# Altium footprint library heed.PcbLib: 20 footprints (part 1 of 2)
Each footprint in its own frame and in the unit in brackets; x right, y up, seen from the top. Pads: shape width x height; smd on the part's side, far side on the other; paste and mask are expansions set on the pad; w line width, h text height; cw(c..) or ccw(c..) is an arc to the next point about the centre after c.
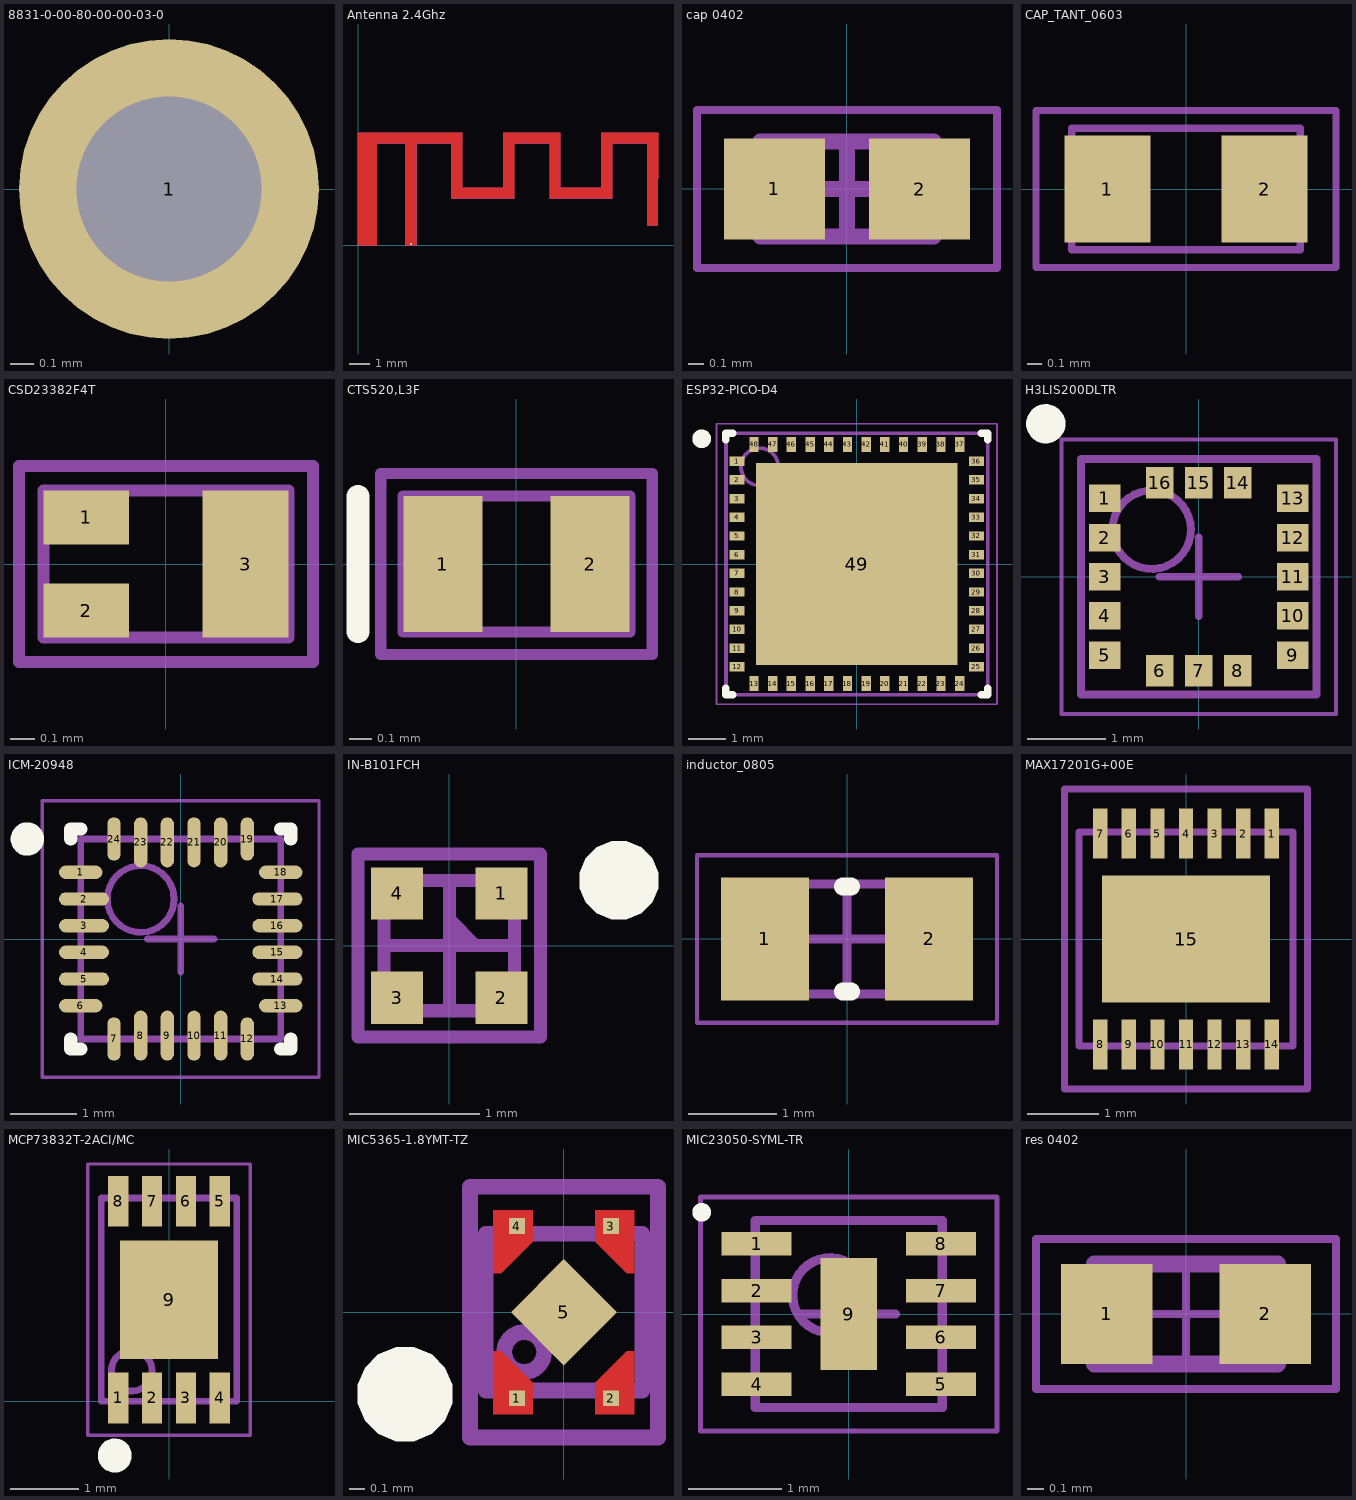
[diagram p0: the footprints below, top view; thin cyan lines are the x and y axes]

## 8831-0-00-80-00-00-03-0 [mm]
pads (1):
  round 1.3 hole 0.8: 1(0,0)

## Antenna 2.4Ghz [mm]
pads (1):
  rect 0.1x0.1 smd paste+0: 1(2.55,0.05)
Top Layer:
  region: 0,0 0,5.39 5,5.39 5,2.75 7,2.75 7,5.39 9.7,5.39 9.7,2.75 11.7,2.75 11.7,5.39 14.4,5.39 14.4,0.95 13.9,0.95 13.9,4.89 12.2,4.89 12.2,2.25 9.2,2.25 9.2,4.89 7.5,4.89 7.5,2.25 4.5,2.25 4.5,4.89 2.8,4.89 2.8,0 2.3,0 2.3,4.89 0.9,4.89 0.9,0
Mechanical 1:
  lines w0.025: 0,5.39 0.4,5.39 0,5.39 ; 0,5.39 5,5.39 5,2.75 7,2.75 7,5.39 9.7,5.39 9.7,2.75 11.7,2.75 11.7,5.39 14.4,5.39 14.4,0.95 13.9,0.95 13.9,4.89 12.2,4.89 12.2,2.25 9.2,2.25 9.2,4.89 7.5,4.89 7.5,2.25 4.5,2.25 4.5,4.89 2.8,4.89 2.8,0 2.3,0 2.3,4.89 0.9,4.89 0.9,0 0,0 0,5.39
Mechanical 13:
  lines w0.025: 0,0.5 0.9,0.5

## cap 0402 [mm] "Chip Capacitor, 2-Leads, Body 1.00x0.50mm, IPC Medium Density"
height 0.6
pads (2):
  rect 0.64x0.64 smd: 1(-0.46,0) 2(0.46,0)
Mechanical 13:
  lines w0.1: -0.55,-0.3 -0.55,0.3 0.55,0.3 0.55,-0.3 -0.55,-0.3
Mechanical 15:
  lines w0.05: -0.95,-0.5 -0.95,0.5 0.95,0.5 0.95,-0.5 -0.95,-0.5
  lines w0.1: -0.3,0 0.3,0 ; 0,-0.3 0,0.3
3D body "cap 0402.step": height 0.6, standoff 0, extent -0.55,-0.3 0.55,0.3

## CAP_TANT_0603 [mm] "cap_0603"
height 0.85
pads (2):
  rect 0.6x0.75 smd: 1(-0.55,0) 2(0.55,0)
Mechanical 13:
  lines w0.05: -0.8,-0.425 0.8,-0.425 0.8,0.425 -0.8,0.425 -0.8,-0.425
Mechanical 15:
  lines w0.05: -1.05,-0.55 -1.05,0.55 1.05,0.55 1.05,-0.55 -1.05,-0.55
3D body: height 0.8, standoff 0, extent -0.8,-0.425 0.8,0.425

## CSD23382F4T [mm]
pads (3):
  rect 0.35x0.22 smd: 1(-0.325,0.19) 2(-0.325,-0.19)
  rect 0.35x0.6 smd: 3(0.325,0)
Mechanical 13:
  lines w0.05: -0.5,-0.3 0.5,-0.3 0.5,0.3 -0.5,0.3 -0.5,-0.3
Mechanical 15:
  lines w0.05: -0.6,-0.4 -0.6,0.4 0.6,0.4 0.6,-0.4 -0.6,-0.4
3D body: height 0.35, standoff 0, extent -0.5,-0.3 0.5,0.3

## CTS520,L3F [mm]
pads (2):
  rect 0.35x0.6 smd: 1(-0.325,0) 2(0.325,0)
Top Overlay:
  lines w0.1: -0.7,-0.3 -0.7,0.3
Mechanical 13:
  region: -0.5,0.3 -0.3,0.3 -0.3,-0.3 -0.5,-0.3
  lines w0.05: -0.5,-0.3 -0.5,0.3 0.5,0.3 0.5,-0.3 -0.5,-0.3
Mechanical 15:
  lines w0.05: -0.6,-0.4 0.6,-0.4 0.6,0.4 -0.6,0.4 -0.6,-0.4
3D body: height 0.4, standoff 0, extent -0.5,-0.3 0.5,0.3

## ESP32-PICO-D4 [mm] "PQFN, 48-Leads, Body 7,00x7,00mm, Pitch 0,50mm, Thermal Pad 5,40x5,40mm, IPC Medium Density"
height 1
pads (49):
  rect 0.4x0.25 smd: 1(-3.2,2.75) 2(-3.2,2.25) 3(-3.2,1.75) 4(-3.2,1.25) 5(-3.2,0.75) 6(-3.2,0.25) 7(-3.2,-0.25) 8(-3.2,-0.75) 9(-3.2,-1.25) 10(-3.2,-1.75) 11(-3.2,-2.25) 12(-3.2,-2.75) 25(3.2,-2.75) 26(3.2,-2.25) 27(3.2,-1.75) 28(3.2,-1.25) 29(3.2,-0.75) 30(3.2,-0.25) 31(3.2,0.25) 32(3.2,0.75) 33(3.2,1.25) 34(3.2,1.75) 35(3.2,2.25) 36(3.2,2.75)
  rect 0.25x0.4 smd: 13(-2.75,-3.2) 14(-2.25,-3.2) 15(-1.75,-3.2) 16(-1.25,-3.2) 17(-0.75,-3.2) 18(-0.25,-3.2) 19(0.25,-3.2) 20(0.75,-3.2) 21(1.25,-3.2) 22(1.75,-3.2) 23(2.25,-3.2) 24(2.75,-3.2) 37(2.75,3.2) 38(2.25,3.2) 39(1.75,3.2) 40(1.25,3.2) 41(0.75,3.2) 42(0.25,3.2) 43(-0.25,3.2) 44(-0.75,3.2) 45(-1.25,3.2) 46(-1.75,3.2) 47(-2.25,3.2) 48(-2.75,3.2)
  rect 5.4x5.4 smd paste-10: 49(0,0)
Top Overlay:
  circle w0.25: c-4.15,3.35 r0.125
  lines w0.2: -3.5,-3.325 -3.5,-3.5 -3.325,-3.5 ; -3.5,3.325 -3.5,3.5 -3.325,3.5 ; 3.325,-3.5 3.5,-3.5 3.5,-3.325 ; 3.325,3.5 3.5,3.5 3.5,3.325
Top Paste:
  region: -2.4,-1 -2.4,-2.4 -1,-2.4 -1,-1
  region: -0.7,-1 -0.7,-2.4 0.7,-2.4 0.7,-1
  region: 1,-1 1,-2.4 2.4,-2.4 2.4,-1
  region: 1,0.7 1,-0.7 2.4,-0.7 2.4,0.7
  region: -2.4,0.7 -2.4,-0.7 -1,-0.7 -1,0.7
  region: -0.7,0.7 -0.7,-0.7 0.7,-0.7 0.7,0.7
  region: -0.7,2.4 -0.7,1 0.7,1 0.7,2.4
  region: 1,2.4 1,1 2.4,1 2.4,2.4
  region: -2.4,2.4 -2.4,1 -1,1 -1,2.4
Mechanical 13:
  circle w0.1: c-2.6,2.6 r0.5
  lines w0.1: -3.5,-3.5 -3.5,3.5 3.5,3.5 3.5,-3.5 -3.5,-3.5
Mechanical 15:
  lines w0.05: -3.75,-3.75 -3.75,3.75 3.75,3.75 3.75,-3.75 -3.75,-3.75
  lines w0.1: -0.5,0 0.5,0 ; 0,-0.5 0,0.5
3D body "ESP32 PICO D4.step": height 1, standoff 0, extent -3.5,-3.5 3.5,3.5

## H3LIS200DLTR [mm] "PQFN, 16-Leads, Body 3.00x3.00mm, Pitch 0.50mm, IPC Medium Density"
height 1
pads (16):
  rect 0.4x0.35 smd: 1(-1.2,1) 2(-1.2,0.5) 3(-1.2,0) 4(-1.2,-0.5) 5(-1.2,-1) 9(1.2,-1) 10(1.2,-0.5) 11(1.2,0) 12(1.2,0.5) 13(1.2,1)
  rect 0.35x0.4 smd: 6(-0.5,-1.2) 7(0,-1.2) 8(0.5,-1.2) 14(0.5,1.2) 15(0,1.2) 16(-0.5,1.2)
Top Overlay:
  circle w0.25: c-1.95,1.95 r0.125
Mechanical 13:
  circle w0.1: c-0.6,0.6 r0.5
  lines w0.1: -1.5,-1.5 -1.5,1.5 1.5,1.5 1.5,-1.5 -1.5,-1.5
Mechanical 15:
  lines w0.05: -1.75,-1.75 -1.75,1.75 1.75,1.75 1.75,-1.75 -1.75,-1.75
  lines w0.1: -0.5,0 0.5,0 ; 0,-0.5 0,0.5
3D body "H3LIS200DLTR.step": height 1, standoff 0, extent -1.5,-1.5 1.5,1.5

## ICM-20948 [mm] "QFN, 24-Leads, Body 3,00x3,00mm, Pitch 0,40mm, Thermal Pad 1,54x1,70mm, IPC Medium Density"
height 1
pads (24):
  oval 0.65x0.2 smd: 1(-1.5,1) 6(-1.5,-1) 13(1.5,-1) 18(1.5,1)
  oval 0.75x0.2 smd: 2(-1.45,0.6) 3(-1.45,0.2) 4(-1.45,-0.2) 5(-1.45,-0.6) 14(1.45,-0.6) 15(1.45,-0.2) 16(1.45,0.2) 17(1.45,0.6)
  oval 0.2x0.65 smd: 7(-1,-1.5) 12(1,-1.5) 19(1,1.5) 24(-1,1.5)
  oval 0.2x0.75 smd: 8(-0.6,-1.45) 9(-0.2,-1.45) 10(0.2,-1.45) 11(0.6,-1.45) 20(0.6,1.45) 21(0.2,1.45) 22(-0.2,1.45) 23(-0.6,1.45)
Top Overlay:
  circle w0.25: c-2.3,1.5 r0.125
  lines w0.2: -1.65,-1.5 -1.65,-1.65 -1.5,-1.65 ; -1.65,1.5 -1.65,1.65 -1.5,1.65 ; 1.5,-1.65 1.65,-1.65 1.65,-1.5 ; 1.5,1.65 1.65,1.65 1.65,1.5
Mechanical 13:
  circle w0.1: c-0.6,0.6 r0.5
  lines w0.1: -1.5,-1.5 1.5,-1.5 1.5,1.5 -1.5,1.5 -1.5,-1.5
Mechanical 15:
  lines w0.05: -2.075,-2.075 2.075,-2.075 2.075,2.075 -2.075,2.075 -2.075,-2.075
  lines w0.1: -0.5,0 0.5,0 ; 0,-0.5 0,0.5
3D body "ICM-20948.step": height 1, standoff 0, extent -1.501,-1.501 1.501,1.501

## IN-B101FCH [mm]
pads (4):
  rect 0.4x0.4 smd: 1(0.4,0.4) 2(0.4,-0.4) 3(-0.4,-0.4) 4(-0.4,0.4)
Top Overlay:
  region: 1.3,0.8 1.36,0.8 1.47,0.754 1.554,0.67 1.6,0.56 1.6,0.5 1.6,0.44 1.554,0.33 1.47,0.246 1.36,0.2 1.3,0.2 1.24,0.2 1.13,0.246 1.046,0.33 1,0.44 1,0.5 1,0.56 1.046,0.67 1.13,0.754 1.24,0.8
Mechanical 13:
  lines w0.1: -0.5,0 0.5,0 ; 0,-0.5 0,0.5 ; 0,0.1 0.1,0 ; 0,0.2 0.2,0 ; -0.5,-0.5 0.5,-0.5 0.5,0.5 -0.5,0.5 -0.5,-0.5
Mechanical 15:
  lines w0.1: -0.7,-0.7 0.7,-0.7 0.7,0.7 -0.7,0.7 -0.7,-0.7
3D body: height 0.65, standoff 0, extent -0.5,-0.5 0.5,0.5

## inductor_0805 [mm] "Chip Inductor, 2-Leads, Body 2.00x1.25mm, IPC Medium Density"
height 0.9
pads (2):
  rect 1x1.39 smd: 1(-0.93,0) 2(0.93,0)
Top Overlay:
  lines w0.2: -0.05,-0.595 0.05,-0.595 ; -0.05,0.595 0.05,0.595
Mechanical 13:
  lines w0.1: -1,-0.625 1,-0.625 1,0.625 -1,0.625 -1,-0.625
Mechanical 15:
  lines w0.05: -1.7,-0.95 1.7,-0.95 1.7,0.95 -1.7,0.95 -1.7,-0.95
  lines w0.1: -0.5,0 0.5,0 ; 0,-0.5 0,0.5
3D body "inductor_0805.step": height 0.9, standoff 0, extent -1,-0.625 1,0.625

## MAX17201G+00E [mm]
pads (15):
  rect 0.2x0.7 smd: 1(1.2,1.475) 2(0.8,1.475) 3(0.4,1.475) 4(0,1.475) 5(-0.4,1.475) 6(-0.8,1.475) 7(-1.2,1.475) 8(-1.2,-1.475) 9(-0.8,-1.475) 10(-0.4,-1.475) 11(0,-1.475) 12(0.4,-1.475) 13(0.8,-1.475) 14(1.2,-1.475)
  rect 2.35x1.78 smd paste-10: 15(0,0)
Top Paste:
  rectangle: -1.016,-0.762 -0.127,-0.127
  rectangle: -1.016,0.127 -0.127,0.762
  rectangle: 0.127,0.127 1.016,0.762
  rectangle: 0.127,-0.762 1.016,-0.127
Mechanical 13:
  lines w0.1: -1.5,-1.5 -1.5,1.5 1.5,1.5 1.5,-1.5 -1.5,-1.5
Mechanical 15:
  lines w0.1: -1.7,-2.1 1.7,-2.1 1.7,2.1 -1.7,2.1 -1.7,-2.1
3D body: height 0.8, standoff 0, extent -1.5,-1.5 1.5,1.5

## MCP73832T-2ACI/MC [mm] "IC CONTROLLER LI-ION 4.2V 8DFN"
pads (9):
  rect 0.3x0.75 smd mask+0.05: 1(-0.75,0.05) 2(-0.25,0.05) 3(0.25,0.05) 4(0.75,0.05) 5(0.75,2.95) 6(0.25,2.95) 7(-0.25,2.95) 8(-0.75,2.95)
  rect 1.45x1.75 smd paste-0.15 mask+0.05: 9(0,1.5)
Top Overlay:
  circle w0.25: c-0.8,-0.8 r0.125
Mechanical 13:
  circle w0.1: c-0.55,0.45 r0.3
  lines w0.1: -1,0 1,0 ; -1,0 -1,3 ; -1,0 1,0 ; -1,0 -1,3 ; -1,3 1,3 1,0
Mechanical 15:
  lines w0.05: -1.2,-0.5 1.2,-0.5 1.2,3.5 -1.2,3.5 -1.2,-0.5
3D body: height 1, standoff 0, extent -1,0 1,3

## MIC5365-1.8YMT-TZ [mm]
pads (5):
  rect 0.1x0.1 smd: 1(-0.3,-0.55) 2(0.3,-0.55) 3(0.3,0.55) 4(-0.3,0.55)
  rect 0.48x0.48 smd rot 45: 5(0,0)
Top Layer:
  region: -0.2,0.65 -0.2,0.45 -0.4,0.25 -0.45,0.25 -0.45,0.65
  region: 0.2,0.65 0.2,0.45 0.4,0.25 0.45,0.25 0.45,0.65
  region: -0.2,-0.65 -0.2,-0.45 -0.4,-0.25 -0.45,-0.25 -0.45,-0.65
  region: 0.2,-0.65 0.2,-0.45 0.4,-0.25 0.45,-0.25 0.45,-0.65
Top Overlay:
  region: -1.015,-0.223 -0.955,-0.223 -0.845,-0.269 -0.76,-0.353 -0.715,-0.463 -0.715,-0.523 -0.715,-0.583 -0.76,-0.693 -0.845,-0.777 -0.955,-0.823 -1.015,-0.823 -1.074,-0.823 -1.185,-0.777 -1.269,-0.693 -1.315,-0.583 -1.315,-0.523 -1.315,-0.463 -1.269,-0.353 -1.185,-0.269 -1.074,-0.223
Mechanical 13:
  circle w0.1: c-0.254,-0.254 r0.127
  lines w0.1: -0.5,-0.5 0.5,-0.5 0.5,0.5 -0.5,0.5 -0.5,-0.5
Mechanical 15:
  lines w0.1: -0.6,-0.8 0.6,-0.8 0.6,0.8 -0.6,0.8 -0.6,-0.8
3D body: height 0.5, standoff 0, extent -0.5,-0.5 0.5,0.5

## MIC23050-SYML-TR [mm] "SON, 8-Leads, Body 2.00x2.00mm, Pitch 0.50mm, Thermal Pad 1.20x0.60mm, IPC Medium Density"
height 0.85
pads (9):
  rect 0.75x0.25 smd: 1(-0.985,0.75) 2(-0.985,0.25) 3(-0.985,-0.25) 4(-0.985,-0.75) 5(0.985,-0.75) 6(0.985,-0.25) 7(0.985,0.25) 8(0.985,0.75)
  rect 0.6x1.2 smd: 9(0,0)
Top Overlay:
  circle w0.1: c-1.572,1.087 r0.05
Mechanical 13:
  circle w0.1: c-0.2,0.2 r0.4
  lines w0.1: -1,-1 -1,1 1,1 1,-1 -1,-1
Mechanical 15:
  lines w0.05: -1.585,-1.25 -1.585,1.25 1.585,1.25 1.585,-1.25 -1.585,-1.25
  lines w0.1: -0.5,0 0.5,0 ; 0,-0.5 0,0.5
3D body: height 0.85, standoff 0, extent -1,-1 1,1

## res 0402 [mm] "Chip Resistor, 2-Leads, Body 1.05x0.54mm, IPC Medium Density"
height 0.4
pads (2):
  rect 0.55x0.6 smd: 1(-0.475,0) 2(0.475,0)
Mechanical 13:
  lines w0.1: -0.55,-0.3 0.55,-0.3 0.55,0.3 -0.55,0.3 -0.55,-0.3
Mechanical 15:
  lines w0.05: -0.3,0 0.3,0 ; 0,-0.3 0,0.3 ; -0.9,-0.45 0.9,-0.45 0.9,0.45 -0.9,0.45 -0.9,-0.45
3D body "res 0402.step": height 0.4, standoff 0, extent -0.55,-0.3 0.55,0.3